# Altium schematic symbol library BC848BW.Schlib: 1 symbol
Pins are listed as number, name and electrical type; pins without a type are passive.

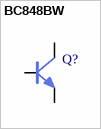
[diagram p0: symbol BC848BW]

## BC848BW
designator Q?  (value not drawn)
pins: 1 B, 2 E, 3 C